# EAGLE library part CONNECTOR-12 (library HyTechDevices - Copy)
12 Pin Connector
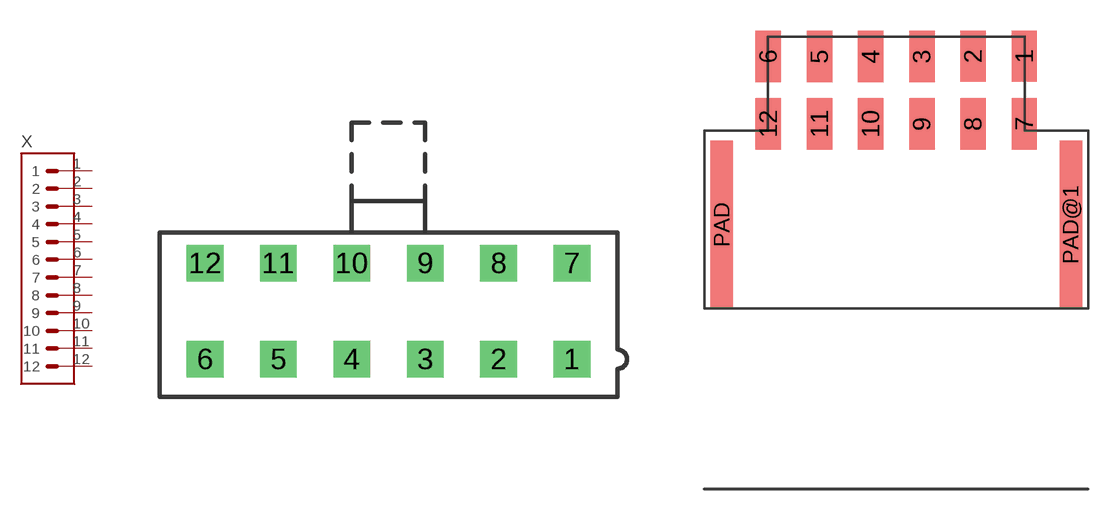
[diagram p1: symbol with the pads of MOLEX_MINIFIT_PTH_12; footprints MOLEX_MINIFIT_PTH_12, MOLEX_NANOFIT_SMD_RIGHTANGLE_12]

Designator prefix X

## CONNECTOR-12 (OC_FARNELL: unknown; OC_NEWARK: unknown)  [MOLEX_MINIFIT_PTH_12]
1  1  pas
2  2  pas
3  3  pas
4  4  pas
5  5  pas
6  6  pas
7  7  pas
8  8  pas
9  9  pas
10  10  pas
11  11  pas
12  12  pas

## CONNECTOR-12NANO-FIT_RIGHT_ANGLE-12-SURFACE  [MOLEX_NANOFIT_SMD_RIGHTANGLE_12]
Pads as for MOLEX_MINIFIT_PTH_12

## CONNECTOR-12NANO-FIT_VERTICAL-12  [MOLEX_NANOFIT_PTH_12]
Pads as for MOLEX_MINIFIT_PTH_12

## Footprint MOLEX_MINIFIT_PTH_12 (pad centres in mm)
12 Pin Mini-Fit Vertical Header, Through Hole, Dual Row Part <https://www.molex.com/molex/products/part-detail/pcb_headers/0039288120> Footprint <https://www.molex.com/pdm_docs/sd/0039288120_sd.pdf>
drill 1.4 square: 1 10.5,-2.75; 2 6.3,-2.75; 3 2.1,-2.75; 4 -2.1,-2.75; 5 -6.3,-2.75; 6 -10.5,-2.75; 7 10.5,2.75; 8 6.3,2.75; 9 2.1,2.75; 10 -2.1,2.75; 11 -6.3,2.75; 12 -10.5,2.75

## Footprint MOLEX_NANOFIT_SMD_RIGHTANGLE_12 (pad centres in mm)
12 Pin Nano-Fit Vertical Header, PCB Mount, Dual Row Part <https://www.molex.com/molex/products/part-detail/pcb_headers/1054051212> Footprint <https://www.molex.com/pdm_docs/sd/1054051212_sd.pdf>
smd 1.24 x 2.5: 1 6.25,1.65; 2 3.75,1.65; 3 1.25,1.64; 4 -1.25,1.64; 5 -3.75,1.64; 6 -6.25,1.64; 7 6.25,-1.65; 8 3.75,-1.65; 9 1.25,-1.65; 10 -1.25,-1.65; 11 -3.75,-1.65; 12 -6.25,-1.65
smd 1.1 x 8.2: PAD -8.52,-6.58; PAD@1 8.52,-6.58

## Footprint MOLEX_NANOFIT_PTH_12 (pad centres in mm)
12 Pin Nano-Fit™ Vertical Header, Through Hole, Dual Row Part <https://www.molex.com/molex/products/part-detail/pcb_headers/1053101212> Footprint <https://www.molex.com/pdm_docs/sd/1053101212_sd.pdf>
drill 1.2: 1 6.25,0; 2 3.75,0; 3 1.25,0; 4 -1.25,0; 5 -3.75,0; 6 -6.25,0; 7 6.25,-2.5; 8 3.75,-2.5; 9 1.25,-2.5; 10 -1.25,-2.5; 11 -3.75,-2.5; 12 -6.25,-2.5
hole 1.3 at 0,1.34